# Altium integrated library Vishay Tansitor Tantalum Radial-Lead Capacitor.IntLib: 13 symbols
Pins are listed as number, name and electrical type; pins without a type are passive.

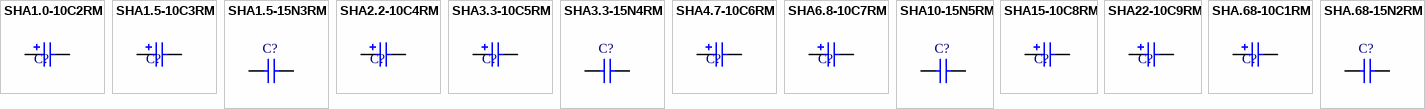
[diagram p0: symbols SHA1.0-10C2RM to SHA.68-15N2RM]

## SHA1.0-10C2RM
designator C?
Subminiature, Leaded Solid Tantalum Capacitor: Radial-Lead, Polarised, 1.0uF, 20% Tolerance, 10 WVDC @ +85°C; Note: See Data Sheet for full range of components; Published: 19-Mar-2004; DatasheetDocument: 13-Jun-2002; PackageReference: SHA-C2; Publisher: Altium Limited; ComponentLink1Description: Manufacturer Link; ComponentLink1URL: http://www.vishay.com/; ComponentLink2Description: Datasheet; ComponentLink2URL: http://www.vishay.com/docs/43004/sha.pdf; Value: 1.0uF
footprint SHA-C2 (Capacitor, Radial, Tantalum; Body 1.7 x 3.18 mm (Dia.xH max); Pin Spacing 1.27 mm (typ))
simulation model CAP (Capacitor)
signal-integrity model SHA1.0-10C2AM
pins: 1, 2
1 alternate drawing of the same symbol

## SHA1.5-10C3RM
designator C?
Subminiature, Leaded Solid Tantalum Capacitor: Radial-Lead, Polarised, 1.5uF, 20% Tolerance, 10 WVDC @ +85°C; Note: See Data Sheet for full range of components; Published: 19-Mar-2004; DatasheetDocument: 13-Jun-2002; PackageReference: SHA-C3; Publisher: Altium Limited; ComponentLink1Description: Manufacturer Link; ComponentLink1URL: http://www.vishay.com/; ComponentLink2Description: Datasheet; ComponentLink2URL: http://www.vishay.com/docs/43004/sha.pdf; Value: 1.5uF
footprint SHA-C3 (Capacitor, Radial, Tantalum; Body 1.7 x 3.68 mm (Dia.xH max); Pin Spacing 1.27 mm (typ))
simulation model CAP (Capacitor)
signal-integrity model SHA1.5-10C3RM
pins: 1, 2
1 alternate drawing of the same symbol

## SHA1.5-15N3RM
designator C?
Subminiature, Leaded Solid Tantalum Capacitor: Radial-Lead, Non-Polarised, 1.5uF, 20% Tolerance, 15 WVDC @ +85°C; Note: See Data Sheet for full range of components; Published: 19-Mar-2004; DatasheetDocument: 13-Jun-2002; PackageReference: SHA-N3; Publisher: Altium Limited; ComponentLink1Description: Manufacturer Link; ComponentLink1URL: http://www.vishay.com/; ComponentLink2Description: Datasheet; ComponentLink2URL: http://www.vishay.com/docs/43004/sha.pdf; Value: 1.5uF
footprint SHA-N3 (Capacitor, Radial, Tantalum, Non-Polarised; Body 3.56 x 2.03 x 5.08 mm (WxTxH max); Pin Spacing 2.54 mm (typ))
simulation model CAP (Capacitor)
signal-integrity model SHA1.5-15N3RM
pins: 1, 2

## SHA2.2-10C4RM
designator C?
Subminiature, Leaded Solid Tantalum Capacitor: Radial-Lead, Polarised, 2.2uF, 20% Tolerance, 10 WVDC @ +85°C; Note: See Data Sheet for full range of components; Published: 19-Mar-2004; DatasheetDocument: 13-Jun-2002; PackageReference: SHA-C4; Publisher: Altium Limited; ComponentLink1Description: Manufacturer Link; ComponentLink1URL: http://www.vishay.com/; ComponentLink2Description: Datasheet; ComponentLink2URL: http://www.vishay.com/docs/43004/sha.pdf; Value: 2.2uF
footprint SHA-C4 (Capacitor, Radial, Tantalum; Body 1.78 x 4.06 mm (Dia.xH max); Pin Spacing 1.27 mm (typ))
simulation model CAP (Capacitor)
signal-integrity model SHA2.2-10C4AM
pins: 1, 2
1 alternate drawing of the same symbol

## SHA3.3-10C5RM
designator C?
Subminiature, Leaded Solid Tantalum Capacitor: Radial-Lead, Polarised, 3.3uF, 20% Tolerance, 10 WVDC @ +85°C; Note: See Data Sheet for full range of components; Published: 19-Mar-2004; DatasheetDocument: 13-Jun-2002; PackageReference: SHA-C5; Publisher: Altium Limited; ComponentLink1Description: Manufacturer Link; ComponentLink1URL: http://www.vishay.com/; ComponentLink2Description: Datasheet; ComponentLink2URL: http://www.vishay.com/docs/43004/sha.pdf; Value: 3.3uF
footprint SHA-C5 (Capacitor, Radial, Tantalum; Body 1.96 x 4.06 mm (Dia.xH max); Pin Spacing 1.27 mm (typ))
simulation model CAP (Capacitor)
signal-integrity model SHA3.3-10C5RM
pins: 1, 2
1 alternate drawing of the same symbol

## SHA3.3-15N4RM
designator C?
Subminiature, Leaded Solid Tantalum Capacitor: Radial-Lead, Non-Polarised, 3.3uF, 20% Tolerance, 15 WVDC @ +85°C; Note: See Data Sheet for full range of components; Published: 19-Mar-2004; DatasheetDocument: 13-Jun-2002; PackageReference: SHA-N4; Publisher: Altium Limited; ComponentLink1Description: Manufacturer Link; ComponentLink1URL: http://www.vishay.com/; ComponentLink2Description: Datasheet; ComponentLink2URL: http://www.vishay.com/docs/43004/sha.pdf; Value: 3.3uF
footprint SHA-N4 (Capacitor, Radial, Tantalum, Non-Polarised; Body 4.83 x 2.67 x 5.97 mm (WxTxH max); Pin Spacing 3.18 mm (typ))
simulation model CAP (Capacitor)
signal-integrity model SHA3.3-15N4AM
pins: 1, 2

## SHA4.7-10C6RM
designator C?
Subminiature, Leaded Solid Tantalum Capacitor: Radial-Lead, Polarised, 4.7uF, 20% Tolerance, 10 WVDC @ +85°C; Note: See Data Sheet for full range of components; Published: 19-Mar-2004; DatasheetDocument: 13-Jun-2002; PackageReference: SHA-C6; Publisher: Altium Limited; ComponentLink1Description: Manufacturer Link; ComponentLink1URL: http://www.vishay.com/; ComponentLink2Description: Datasheet; ComponentLink2URL: http://www.vishay.com/docs/43004/sha.pdf; Value: 4.7uF
footprint SHA-C6 (Capacitor, Radial, Tantalum; Body 1.96 x 4.83 mm (Dia.xH max); Pin Spacing 1.27 mm (typ))
simulation model CAP (Capacitor)
signal-integrity model SHA4.7-10C6AM
pins: 1, 2
1 alternate drawing of the same symbol

## SHA6.8-10C7RM
designator C?
Subminiature, Leaded Solid Tantalum Capacitor: Radial-Lead, Polarised, 6.8uF, 20% Tolerance, 10 WVDC @ +85°C; Note: See Data Sheet for full range of components; Published: 19-Mar-2004; DatasheetDocument: 13-Jun-2002; PackageReference: SHA-C7; Publisher: Altium Limited; ComponentLink1Description: Manufacturer Link; ComponentLink1URL: http://www.vishay.com/; ComponentLink2Description: Datasheet; ComponentLink2URL: http://www.vishay.com/docs/43004/sha.pdf; Value: 6.8uF
footprint SHA-C7 (Capacitor, Radial, Tantalum; Body 2.03 x 5.08 mm (Dia.xH max); Pin Spacing 1.27 mm (typ))
simulation model CAP (Capacitor)
signal-integrity model SHA6.8-10C7RM
pins: 1, 2
1 alternate drawing of the same symbol

## SHA10-15N5RM
designator C?
Subminiature, Leaded Solid Tantalum Capacitor: Radial-Lead, Non-Polarised, 10uF, 20% Tolerance, 15 WVDC @ +85°C; Note: See Data Sheet for full range of components; Published: 19-Mar-2004; DatasheetDocument: 13-Jun-2002; PackageReference: SHA-N5; Publisher: Altium Limited; ComponentLink1Description: Manufacturer Link; ComponentLink1URL: http://www.vishay.com/; ComponentLink2Description: Datasheet; ComponentLink2URL: http://www.vishay.com/docs/43004/sha.pdf; Value: 10uF
footprint SHA-N5 (Capacitor, Radial, Tantalum, Non-Polarised; Body 7.37 x 3.94 x 6.86 mm (WxTxH max); Pin Spacing 5.08 mm (typ))
simulation model CAP (Capacitor)
signal-integrity model SHA10-15N5RM
pins: 1, 2

## SHA15-10C8RM
designator C?
Subminiature, Leaded Solid Tantalum Capacitor: Radial-Lead, Polarised, 15uF, 20% Tolerance, 10 WVDC @ +85°C; Note: See Data Sheet for full range of components; Published: 19-Mar-2004; DatasheetDocument: 13-Jun-2002; PackageReference: SHA-C8; Publisher: Altium Limited; ComponentLink1Description: Manufacturer Link; ComponentLink1URL: http://www.vishay.com/; ComponentLink2Description: Datasheet; ComponentLink2URL: http://www.vishay.com/docs/43004/sha.pdf; Value: 15uF
footprint SHA-C8 (Capacitor, Radial, Tantalum; Body 2.54 x 5.72 mm (Dia.xH max); Pin Spacing 1.78 mm (typ))
simulation model CAP (Capacitor)
signal-integrity model SHA15-10C8AM
pins: 1, 2
1 alternate drawing of the same symbol

## SHA22-10C9RM
designator C?
Subminiature, Leaded Solid Tantalum Capacitor: Radial-Lead, Polarised, 22uF, 20% Tolerance, 10 WVDC @ +85°C; Note: See Data Sheet for full range of components; Published: 19-Mar-2004; DatasheetDocument: 13-Jun-2002; PackageReference: SHA-C9; Publisher: Altium Limited; ComponentLink1Description: Manufacturer Link; ComponentLink1URL: http://www.vishay.com/; ComponentLink2Description: Datasheet; ComponentLink2URL: http://www.vishay.com/docs/43004/sha.pdf; Value: 22uF
footprint SHA-C9 (Capacitor, Radial, Tantalum; Body 3.81 x 6.35 mm (Dia.xH max); Pin Spacing 3.05 mm (typ))
simulation model CAP (Capacitor)
signal-integrity model SHA22-10C9RM
pins: 1, 2
1 alternate drawing of the same symbol

## SHA.68-10C1RM
designator C?
Subminiature, Leaded Solid Tantalum Capacitor: Radial-Lead, Polarised, 0.68uF, 20% Tolerance, 10 WVDC @ +85°C; Note: See Data Sheet for full range of components; Published: 19-Mar-2004; DatasheetDocument: 13-Jun-2002; PackageReference: SHA-C1; Publisher: Altium Limited; ComponentLink1Description: Manufacturer Link; ComponentLink1URL: http://www.vishay.com/; ComponentLink2Description: Datasheet; ComponentLink2URL: http://www.vishay.com/docs/43004/sha.pdf; Value: 0.68uF
footprint SHA-C1 (Capacitor, Radial, Tantalum; Body 1.7 x 2.8 mm (Dia.xH max); Pin Spacing 1.27 mm (typ))
simulation model CAP (Capacitor)
signal-integrity model SHA.68-10C1RM
pins: 1, 2
1 alternate drawing of the same symbol

## SHA.68-15N2RM
designator C?
Subminiature, Leaded Solid Tantalum Capacitor: Radial-Lead, Non-Polarised, 0.68uF, 20% Tolerance, 15 WVDC @ +85°C; Note: See Data Sheet for full range of components; Published: 19-Mar-2004; DatasheetDocument: 13-Jun-2002; PackageReference: SHA-N2; Publisher: Altium Limited; ComponentLink1Description: Manufacturer Link; ComponentLink1URL: http://www.vishay.com/; ComponentLink2Description: Datasheet; ComponentLink2URL: http://www.vishay.com/docs/43004/sha.pdf; Value: 0.68uF
footprint SHA-N2 (Capacitor, Radial, Tantalum, Non-Polarised; Body 3.05 x 1.78 x 4.06 mm (WxTxH max); Pin Spacing 2.54 mm (typ))
simulation model CAP (Capacitor)
signal-integrity model SHA.68-15N2AM
pins: 1, 2